# Altium schematic symbol library LM3900N.SchLib: 1 symbol
Pins are listed as number, name and electrical type; pins without a type are passive.

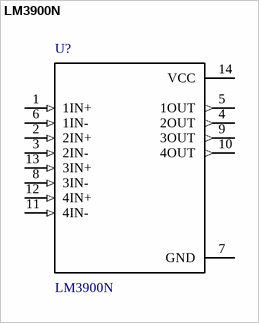
[diagram p0: symbol LM3900N]

## LM3900N
designator U?
SnapEDA_Link: https://www.snapeda.com/parts/LM3900N/Texas%20Instruments/view-part/207/?ref=snap; Check_prices: https://www.snapeda.com/parts/LM3900N/Texas%20Instruments/view-part/207/?ref=eda; Value: *
footprint *DIP794W45P254L1969H508Q14
pins: 1 1IN+ (in), 2 2IN+ (in), 3 2IN- (in), 4 2OUT (out), 5 1OUT (out), 6 1IN- (in), 7 GND (power), 8 3IN- (in), 9 3OUT (out), 10 4OUT (out), 11 4IN- (in), 12 4IN+ (in), 13 3IN+ (in), 14 VCC (power)